# Altium integrated library Dallas Interface Digital Potentiometer.IntLib: 89 symbols (part 1 of 2)
Pins are listed as number, name and electrical type; pins without a type are passive.

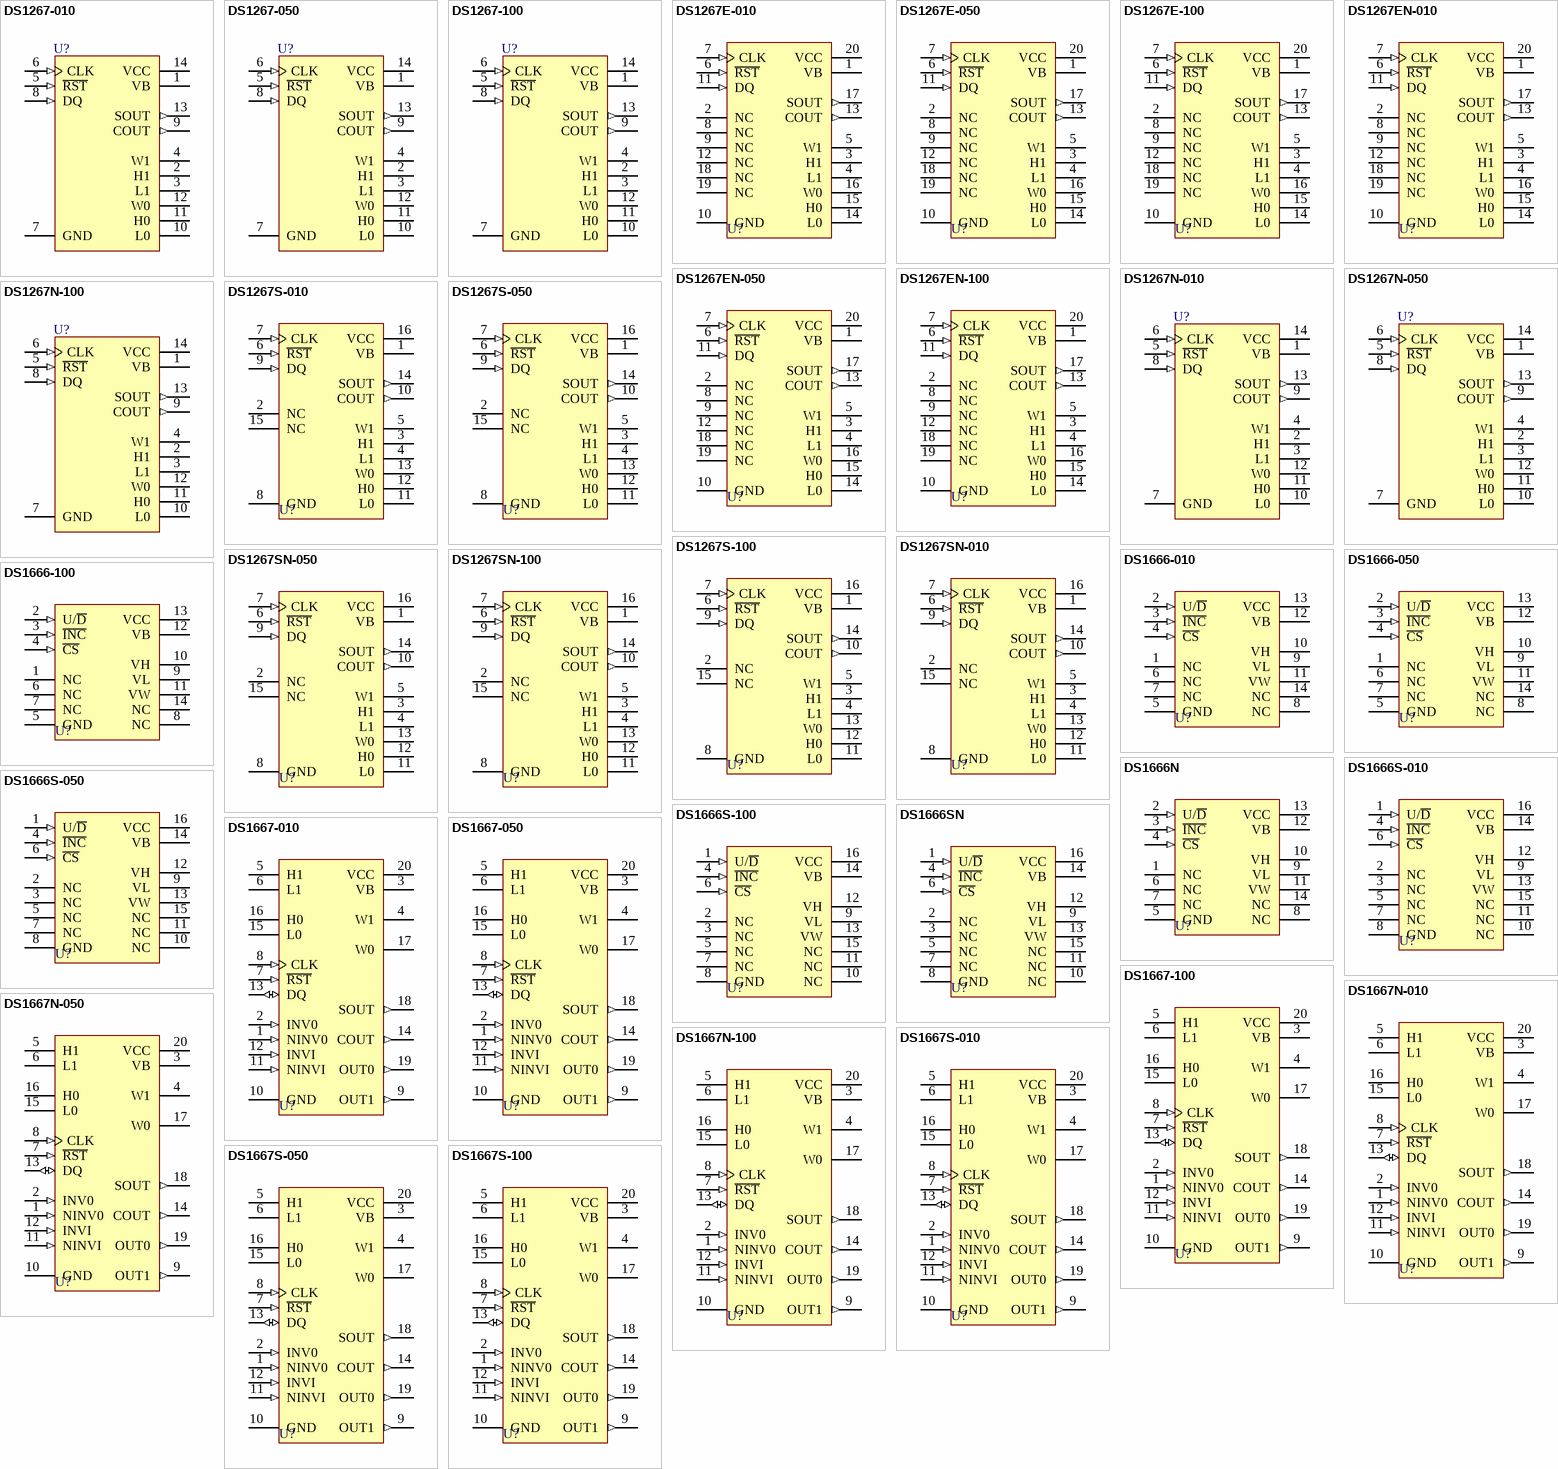
[diagram p0: symbols DS1267-010 to DS1667S-100]

## DS1267-010
designator U?
Dual Digital Potentiometer Chip; PackageDocument: 1999; Published: 13-Oct-2000; LatestRevisionDate: 06-Jun-2005; LatestRevisionNote: Stylized 3D Model Added.; DatasheetDocument: 21-Oct-1999; PackageReference: DIP14; Publisher: Altium Limited; ComponentLink1Description: Manufacturer Link; ComponentLink1URL: http://www.maxim-ic.com/; ComponentLink2Description: Datasheet; ComponentLink2URL: http://pdfserv.maxim-ic.com/en/ds/DS1267.pdf
footprint DIP14 (DIP; 14 Leads; Row Spacing 7.62 mm; Pitch 2.54 mm)
3D model DIP14 (DIP; 14 Leads; Row Spacing 7.62 mm; Pitch 2.54 mm)
pins: 1 VB (power), 2 H1, 3 L1, 4 W1, 5 ~{RST} (in), 6 CLK (in), 7 GND (power), 8 DQ (in), 9 COUT (out), 10 L0, 11 H0, 12 W0, 13 SOUT (out), 14 VCC (power)

## DS1267-050
designator U?
Dual Digital Potentiometer Chip; PackageDocument: 1999; Published: 13-Oct-2000; LatestRevisionDate: 06-Jun-2005; LatestRevisionNote: Stylized 3D Model Added.; DatasheetDocument: 21-Oct-1999; PackageReference: DIP14; Publisher: Altium Limited; ComponentLink1Description: Manufacturer Link; ComponentLink1URL: http://www.maxim-ic.com/; ComponentLink2Description: Datasheet; ComponentLink2URL: http://pdfserv.maxim-ic.com/en/ds/DS1267.pdf
footprint DIP14 (DIP; 14 Leads; Row Spacing 7.62 mm; Pitch 2.54 mm)
3D model DIP14 (DIP; 14 Leads; Row Spacing 7.62 mm; Pitch 2.54 mm)
pins: 1 VB (power), 2 H1, 3 L1, 4 W1, 5 ~{RST} (in), 6 CLK (in), 7 GND (power), 8 DQ (in), 9 COUT (out), 10 L0, 11 H0, 12 W0, 13 SOUT (out), 14 VCC (power)

## DS1267-100
designator U?
Dual Digital Potentiometer Chip; PackageDocument: 1999; Published: 13-Oct-2000; LatestRevisionDate: 06-Jun-2005; LatestRevisionNote: Stylized 3D Model Added.; DatasheetDocument: 21-Oct-1999; PackageReference: DIP14; Publisher: Altium Limited; ComponentLink1Description: Manufacturer Link; ComponentLink1URL: http://www.maxim-ic.com/; ComponentLink2Description: Datasheet; ComponentLink2URL: http://pdfserv.maxim-ic.com/en/ds/DS1267.pdf
footprint DIP14 (DIP; 14 Leads; Row Spacing 7.62 mm; Pitch 2.54 mm)
3D model DIP14 (DIP; 14 Leads; Row Spacing 7.62 mm; Pitch 2.54 mm)
pins: 1 VB (power), 2 H1, 3 L1, 4 W1, 5 ~{RST} (in), 6 CLK (in), 7 GND (power), 8 DQ (in), 9 COUT (out), 10 L0, 11 H0, 12 W0, 13 SOUT (out), 14 VCC (power)

## DS1267E-010
designator U?
Dual Digital Potentiometer Chip; Note: Pin numbers 2, 8, 9, 12, 18 and 19 are Not Connected (NC); Published: 13-Oct-2000; LatestRevisionDate: 06-Jun-2005; LatestRevisionNote: Stylized 3D Model Added.; DatasheetDocument: 21-Oct-1999; PackageReference: TSSOP20; Publisher: Altium Limited; ComponentLink1Description: Manufacturer Link; ComponentLink1URL: http://www.maxim-ic.com/; ComponentLink2Description: Datasheet; ComponentLink2URL: http://pdfserv.maxim-ic.com/en/ds/DS1267.pdf
footprint TSSOP20 (Shrink Small Outline; 20 Leads; Body Width 4.4 mm; Pitch 0.65 mm)
3D model TSSOP20 (Shrink Small Outline; 20 Leads; Body Width 4.4 mm; Pitch 0.65 mm)
pins: 1 VB (power), 2 NC, 3 H1, 4 L1, 5 W1, 6 ~{RST} (in), 7 CLK (in), 8 NC, 9 NC, 10 GND (power), 11 DQ (in), 12 NC, 13 COUT (out), 14 L0, 15 H0, 16 W0, 17 SOUT (out), 18 NC, 19 NC, 20 VCC (power)

## DS1267E-050
designator U?
Dual Digital Potentiometer Chip; Note: Pin numbers 2, 8, 9, 12, 18 and 19 are Not Connected (NC); Published: 13-Oct-2000; LatestRevisionDate: 06-Jun-2005; LatestRevisionNote: Stylized 3D Model Added.; DatasheetDocument: 21-Oct-1999; PackageReference: TSSOP20; Publisher: Altium Limited; ComponentLink1Description: Manufacturer Link; ComponentLink1URL: http://www.maxim-ic.com/; ComponentLink2Description: Datasheet; ComponentLink2URL: http://pdfserv.maxim-ic.com/en/ds/DS1267.pdf
footprint TSSOP20 (Shrink Small Outline; 20 Leads; Body Width 4.4 mm; Pitch 0.65 mm)
3D model TSSOP20 (Shrink Small Outline; 20 Leads; Body Width 4.4 mm; Pitch 0.65 mm)
pins: 1 VB (power), 2 NC, 3 H1, 4 L1, 5 W1, 6 ~{RST} (in), 7 CLK (in), 8 NC, 9 NC, 10 GND (power), 11 DQ (in), 12 NC, 13 COUT (out), 14 L0, 15 H0, 16 W0, 17 SOUT (out), 18 NC, 19 NC, 20 VCC (power)

## DS1267E-100
designator U?
Dual Digital Potentiometer Chip; Note: Pin numbers 2, 8, 9, 12, 18 and 19 are Not Connected (NC); Published: 13-Oct-2000; LatestRevisionDate: 06-Jun-2005; LatestRevisionNote: Stylized 3D Model Added.; DatasheetDocument: 21-Oct-1999; PackageReference: TSSOP20; Publisher: Altium Limited; ComponentLink1Description: Manufacturer Link; ComponentLink1URL: http://www.maxim-ic.com/; ComponentLink2Description: Datasheet; ComponentLink2URL: http://pdfserv.maxim-ic.com/en/ds/DS1267.pdf
footprint TSSOP20 (Shrink Small Outline; 20 Leads; Body Width 4.4 mm; Pitch 0.65 mm)
3D model TSSOP20 (Shrink Small Outline; 20 Leads; Body Width 4.4 mm; Pitch 0.65 mm)
pins: 1 VB (power), 2 NC, 3 H1, 4 L1, 5 W1, 6 ~{RST} (in), 7 CLK (in), 8 NC, 9 NC, 10 GND (power), 11 DQ (in), 12 NC, 13 COUT (out), 14 L0, 15 H0, 16 W0, 17 SOUT (out), 18 NC, 19 NC, 20 VCC (power)

## DS1267EN-010
designator U?
Dual Digital Potentiometer Chip; Note: Pin numbers 2, 8, 9, 12, 18 and 19 are Not Connected (NC); Published: 13-Oct-2000; LatestRevisionDate: 06-Jun-2005; LatestRevisionNote: Stylized 3D Model Added.; DatasheetDocument: 21-Oct-1999; PackageReference: TSSOP20; Publisher: Altium Limited; ComponentLink1Description: Manufacturer Link; ComponentLink1URL: http://www.maxim-ic.com/; ComponentLink2Description: Datasheet; ComponentLink2URL: http://pdfserv.maxim-ic.com/en/ds/DS1267.pdf
footprint TSSOP20 (Shrink Small Outline; 20 Leads; Body Width 4.4 mm; Pitch 0.65 mm)
3D model TSSOP20 (Shrink Small Outline; 20 Leads; Body Width 4.4 mm; Pitch 0.65 mm)
pins: 1 VB (power), 2 NC, 3 H1, 4 L1, 5 W1, 6 ~{RST} (in), 7 CLK (in), 8 NC, 9 NC, 10 GND (power), 11 DQ (in), 12 NC, 13 COUT (out), 14 L0, 15 H0, 16 W0, 17 SOUT (out), 18 NC, 19 NC, 20 VCC (power)

## DS1267EN-050
designator U?
Dual Digital Potentiometer Chip; Note: Pin numbers 2, 8, 9, 12, 18 and 19 are Not Connected (NC); Published: 13-Oct-2000; LatestRevisionDate: 06-Jun-2005; LatestRevisionNote: Stylized 3D Model Added.; DatasheetDocument: 21-Oct-1999; PackageReference: TSSOP20; Publisher: Altium Limited; ComponentLink1Description: Manufacturer Link; ComponentLink1URL: http://www.maxim-ic.com/; ComponentLink2Description: Datasheet; ComponentLink2URL: http://pdfserv.maxim-ic.com/en/ds/DS1267.pdf
footprint TSSOP20 (Shrink Small Outline; 20 Leads; Body Width 4.4 mm; Pitch 0.65 mm)
3D model TSSOP20 (Shrink Small Outline; 20 Leads; Body Width 4.4 mm; Pitch 0.65 mm)
pins: 1 VB (power), 2 NC, 3 H1, 4 L1, 5 W1, 6 ~{RST} (in), 7 CLK (in), 8 NC, 9 NC, 10 GND (power), 11 DQ (in), 12 NC, 13 COUT (out), 14 L0, 15 H0, 16 W0, 17 SOUT (out), 18 NC, 19 NC, 20 VCC (power)

## DS1267EN-100
designator U?
Dual Digital Potentiometer Chip; Note: Pin numbers 2, 8, 9, 12, 18 and 19 are Not Connected (NC); Published: 13-Oct-2000; LatestRevisionDate: 06-Jun-2005; LatestRevisionNote: Stylized 3D Model Added.; DatasheetDocument: 21-Oct-1999; PackageReference: TSSOP20; Publisher: Altium Limited; ComponentLink1Description: Manufacturer Link; ComponentLink1URL: http://www.maxim-ic.com/; ComponentLink2Description: Datasheet; ComponentLink2URL: http://pdfserv.maxim-ic.com/en/ds/DS1267.pdf
footprint TSSOP20 (Shrink Small Outline; 20 Leads; Body Width 4.4 mm; Pitch 0.65 mm)
3D model TSSOP20 (Shrink Small Outline; 20 Leads; Body Width 4.4 mm; Pitch 0.65 mm)
pins: 1 VB (power), 2 NC, 3 H1, 4 L1, 5 W1, 6 ~{RST} (in), 7 CLK (in), 8 NC, 9 NC, 10 GND (power), 11 DQ (in), 12 NC, 13 COUT (out), 14 L0, 15 H0, 16 W0, 17 SOUT (out), 18 NC, 19 NC, 20 VCC (power)

## DS1267N-010
designator U?
Dual Digital Potentiometer Chip; PackageDocument: 1999; Published: 13-Oct-2000; LatestRevisionDate: 06-Jun-2005; LatestRevisionNote: Stylized 3D Model Added.; DatasheetDocument: 21-Oct-1999; PackageReference: DIP14; Publisher: Altium Limited; ComponentLink1Description: Manufacturer Link; ComponentLink1URL: http://www.maxim-ic.com/; ComponentLink2Description: Datasheet; ComponentLink2URL: http://pdfserv.maxim-ic.com/en/ds/DS1267.pdf
footprint DIP14 (DIP; 14 Leads; Row Spacing 7.62 mm; Pitch 2.54 mm)
3D model DIP14 (DIP; 14 Leads; Row Spacing 7.62 mm; Pitch 2.54 mm)
pins: 1 VB (power), 2 H1, 3 L1, 4 W1, 5 ~{RST} (in), 6 CLK (in), 7 GND (power), 8 DQ (in), 9 COUT (out), 10 L0, 11 H0, 12 W0, 13 SOUT (out), 14 VCC (power)

## DS1267N-050
designator U?
Dual Digital Potentiometer Chip; PackageDocument: 1999; Published: 13-Oct-2000; LatestRevisionDate: 06-Jun-2005; LatestRevisionNote: Stylized 3D Model Added.; DatasheetDocument: 21-Oct-1999; PackageReference: DIP14; Publisher: Altium Limited; ComponentLink1Description: Manufacturer Link; ComponentLink1URL: http://www.maxim-ic.com/; ComponentLink2Description: Datasheet; ComponentLink2URL: http://pdfserv.maxim-ic.com/en/ds/DS1267.pdf
footprint DIP14 (DIP; 14 Leads; Row Spacing 7.62 mm; Pitch 2.54 mm)
3D model DIP14 (DIP; 14 Leads; Row Spacing 7.62 mm; Pitch 2.54 mm)
pins: 1 VB (power), 2 H1, 3 L1, 4 W1, 5 ~{RST} (in), 6 CLK (in), 7 GND (power), 8 DQ (in), 9 COUT (out), 10 L0, 11 H0, 12 W0, 13 SOUT (out), 14 VCC (power)

## DS1267N-100
designator U?
Dual Digital Potentiometer Chip; PackageDocument: 1999; Published: 13-Oct-2000; LatestRevisionDate: 06-Jun-2005; LatestRevisionNote: Stylized 3D Model Added.; DatasheetDocument: 21-Oct-1999; PackageReference: DIP14; Publisher: Altium Limited; ComponentLink1Description: Manufacturer Link; ComponentLink1URL: http://www.maxim-ic.com/; ComponentLink2Description: Datasheet; ComponentLink2URL: http://pdfserv.maxim-ic.com/en/ds/DS1267.pdf
footprint DIP14 (DIP; 14 Leads; Row Spacing 7.62 mm; Pitch 2.54 mm)
3D model DIP14 (DIP; 14 Leads; Row Spacing 7.62 mm; Pitch 2.54 mm)
pins: 1 VB (power), 2 H1, 3 L1, 4 W1, 5 ~{RST} (in), 6 CLK (in), 7 GND (power), 8 DQ (in), 9 COUT (out), 10 L0, 11 H0, 12 W0, 13 SOUT (out), 14 VCC (power)

## DS1267S-010
designator U?
Dual Digital Potentiometer Chip; PackageDocument: 1999; Note: Pin numbers 2 and 15 are Not Connected (NC); Published: 13-Oct-2000; LatestRevisionDate: 06-Jun-2005; LatestRevisionNote: Stylized 3D Model Added.; DatasheetDocument: 21-Oct-1999; PackageReference: SOIC16W; Publisher: Altium Limited; ComponentLink1Description: Manufacturer Link; ComponentLink1URL: http://www.maxim-ic.com/; ComponentLink2Description: Datasheet; ComponentLink2URL: http://pdfserv.maxim-ic.com/en/ds/DS1267.pdf
footprint SOIC16W (Small Outline; 16 Leads; Body Width 7.5 mm; Pitch 1.27 mm)
3D model SOIC16W (Small Outline; 16 Leads; Body Width 7.5 mm; Pitch 1.27 mm)
pins: 1 VB (power), 2 NC, 3 H1, 4 L1, 5 W1, 6 ~{RST} (in), 7 CLK (in), 8 GND (power), 9 DQ (in), 10 COUT (out), 11 L0, 12 H0, 13 W0, 14 SOUT (out), 15 NC, 16 VCC (power)

## DS1267S-050
designator U?
Dual Digital Potentiometer Chip; PackageDocument: 1999; Note: Pin numbers 2 and 15 are Not Connected (NC); Published: 13-Oct-2000; LatestRevisionDate: 06-Jun-2005; LatestRevisionNote: Stylized 3D Model Added.; DatasheetDocument: 21-Oct-1999; PackageReference: SOIC16W; Publisher: Altium Limited; ComponentLink1Description: Manufacturer Link; ComponentLink1URL: http://www.maxim-ic.com/; ComponentLink2Description: Datasheet; ComponentLink2URL: http://pdfserv.maxim-ic.com/en/ds/DS1267.pdf
footprint SOIC16W (Small Outline; 16 Leads; Body Width 7.5 mm; Pitch 1.27 mm)
3D model SOIC16W (Small Outline; 16 Leads; Body Width 7.5 mm; Pitch 1.27 mm)
pins: 1 VB (power), 2 NC, 3 H1, 4 L1, 5 W1, 6 ~{RST} (in), 7 CLK (in), 8 GND (power), 9 DQ (in), 10 COUT (out), 11 L0, 12 H0, 13 W0, 14 SOUT (out), 15 NC, 16 VCC (power)

## DS1267S-100
designator U?
Dual Digital Potentiometer Chip; PackageDocument: 1999; Note: Pin numbers 2 and 15 are Not Connected (NC); Published: 13-Oct-2000; LatestRevisionDate: 06-Jun-2005; LatestRevisionNote: Stylized 3D Model Added.; DatasheetDocument: 21-Oct-1999; PackageReference: SOIC16W; Publisher: Altium Limited; ComponentLink1Description: Manufacturer Link; ComponentLink1URL: http://www.maxim-ic.com/; ComponentLink2Description: Datasheet; ComponentLink2URL: http://pdfserv.maxim-ic.com/en/ds/DS1267.pdf
footprint SOIC16W (Small Outline; 16 Leads; Body Width 7.5 mm; Pitch 1.27 mm)
3D model SOIC16W (Small Outline; 16 Leads; Body Width 7.5 mm; Pitch 1.27 mm)
pins: 1 VB (power), 2 NC, 3 H1, 4 L1, 5 W1, 6 ~{RST} (in), 7 CLK (in), 8 GND (power), 9 DQ (in), 10 COUT (out), 11 L0, 12 H0, 13 W0, 14 SOUT (out), 15 NC, 16 VCC (power)

## DS1267SN-010
designator U?
Dual Digital Potentiometer Chip; PackageDocument: 1999; Note: Pin numbers 2 and 15 are Not Connected (NC); Published: 13-Oct-2000; LatestRevisionDate: 06-Jun-2005; LatestRevisionNote: Stylized 3D Model Added.; DatasheetDocument: 21-Oct-1999; PackageReference: SOIC16W; Publisher: Altium Limited; ComponentLink1Description: Manufacturer Link; ComponentLink1URL: http://www.maxim-ic.com/; ComponentLink2Description: Datasheet; ComponentLink2URL: http://pdfserv.maxim-ic.com/en/ds/DS1267.pdf
footprint SOIC16W (Small Outline; 16 Leads; Body Width 7.5 mm; Pitch 1.27 mm)
3D model SOIC16W (Small Outline; 16 Leads; Body Width 7.5 mm; Pitch 1.27 mm)
pins: 1 VB (power), 2 NC, 3 H1, 4 L1, 5 W1, 6 ~{RST} (in), 7 CLK (in), 8 GND (power), 9 DQ (in), 10 COUT (out), 11 L0, 12 H0, 13 W0, 14 SOUT (out), 15 NC, 16 VCC (power)

## DS1267SN-050
designator U?
Dual Digital Potentiometer Chip; PackageDocument: 1999; Note: Pin numbers 2 and 15 are Not Connected (NC); Published: 13-Oct-2000; LatestRevisionDate: 06-Jun-2005; LatestRevisionNote: Stylized 3D Model Added.; DatasheetDocument: 21-Oct-1999; PackageReference: SOIC16W; Publisher: Altium Limited; ComponentLink1Description: Manufacturer Link; ComponentLink1URL: http://www.maxim-ic.com/; ComponentLink2Description: Datasheet; ComponentLink2URL: http://pdfserv.maxim-ic.com/en/ds/DS1267.pdf
footprint SOIC16W (Small Outline; 16 Leads; Body Width 7.5 mm; Pitch 1.27 mm)
3D model SOIC16W (Small Outline; 16 Leads; Body Width 7.5 mm; Pitch 1.27 mm)
pins: 1 VB (power), 2 NC, 3 H1, 4 L1, 5 W1, 6 ~{RST} (in), 7 CLK (in), 8 GND (power), 9 DQ (in), 10 COUT (out), 11 L0, 12 H0, 13 W0, 14 SOUT (out), 15 NC, 16 VCC (power)

## DS1267SN-100
designator U?
Dual Digital Potentiometer Chip; PackageDocument: 1999; Note: Pin numbers 2 and 15 are Not Connected (NC); Published: 13-Oct-2000; LatestRevisionDate: 06-Jun-2005; LatestRevisionNote: Stylized 3D Model Added.; DatasheetDocument: 21-Oct-1999; PackageReference: SOIC16W; Publisher: Altium Limited; ComponentLink1Description: Manufacturer Link; ComponentLink1URL: http://www.maxim-ic.com/; ComponentLink2Description: Datasheet; ComponentLink2URL: http://pdfserv.maxim-ic.com/en/ds/DS1267.pdf
footprint SOIC16W (Small Outline; 16 Leads; Body Width 7.5 mm; Pitch 1.27 mm)
3D model SOIC16W (Small Outline; 16 Leads; Body Width 7.5 mm; Pitch 1.27 mm)
pins: 1 VB (power), 2 NC, 3 H1, 4 L1, 5 W1, 6 ~{RST} (in), 7 CLK (in), 8 GND (power), 9 DQ (in), 10 COUT (out), 11 L0, 12 H0, 13 W0, 14 SOUT (out), 15 NC, 16 VCC (power)

## DS1666-010
designator U?
Audio Digital Resistor; PackageDocument: 1999; Note: Pin numbers 1, 6, 7, 8 and 14 are Not Connected (NC); Published: 13-Oct-2000; LatestRevisionDate: 06-Jun-2005; LatestRevisionNote: Stylized 3D Model Added.; DatasheetDocument: 23-Nov-1999; PackageReference: DIP14; Publisher: Altium Limited; ComponentLink1Description: Manufacturer Link; ComponentLink1URL: http://www.maxim-ic.com/; ComponentLink2Description: Datasheet; ComponentLink2URL: http://pdfserv.maxim-ic.com/en/ds/DS1666-DS1666S.pdf
footprint DIP14 (DIP; 14 Leads; Row Spacing 7.62 mm; Pitch 2.54 mm)
3D model DIP14 (DIP; 14 Leads; Row Spacing 7.62 mm; Pitch 2.54 mm)
pins: 1 NC, 2 U/~{D} (in), 3 ~{INC} (in), 4 ~{CS} (in), 5 GND (power), 6 NC, 7 NC, 8 NC, 9 VL, 10 VH, 11 VW, 12 VB (power), 13 VCC (power), 14 NC

## DS1666-050
designator U?
Audio Digital Resistor; PackageDocument: 1999; Note: Pin numbers 1, 6, 7, 8 and 14 are Not Connected (NC); Published: 13-Oct-2000; LatestRevisionDate: 06-Jun-2005; LatestRevisionNote: Stylized 3D Model Added.; DatasheetDocument: 23-Nov-1999; PackageReference: DIP14; Publisher: Altium Limited; ComponentLink1Description: Manufacturer Link; ComponentLink1URL: http://www.maxim-ic.com/; ComponentLink2Description: Datasheet; ComponentLink2URL: http://pdfserv.maxim-ic.com/en/ds/DS1666-DS1666S.pdf
footprint DIP14 (DIP; 14 Leads; Row Spacing 7.62 mm; Pitch 2.54 mm)
3D model DIP14 (DIP; 14 Leads; Row Spacing 7.62 mm; Pitch 2.54 mm)
pins: 1 NC, 2 U/~{D} (in), 3 ~{INC} (in), 4 ~{CS} (in), 5 GND (power), 6 NC, 7 NC, 8 NC, 9 VL, 10 VH, 11 VW, 12 VB (power), 13 VCC (power), 14 NC

## DS1666-100
designator U?
Audio Digital Resistor; PackageDocument: 1999; Note: Pin numbers 1, 6, 7, 8 and 14 are Not Connected (NC); Published: 13-Oct-2000; LatestRevisionDate: 06-Jun-2005; LatestRevisionNote: Stylized 3D Model Added.; DatasheetDocument: 23-Nov-1999; PackageReference: DIP14; Publisher: Altium Limited; ComponentLink1Description: Manufacturer Link; ComponentLink1URL: http://www.maxim-ic.com/; ComponentLink2Description: Datasheet; ComponentLink2URL: http://pdfserv.maxim-ic.com/en/ds/DS1666-DS1666S.pdf
footprint DIP14 (DIP; 14 Leads; Row Spacing 7.62 mm; Pitch 2.54 mm)
3D model DIP14 (DIP; 14 Leads; Row Spacing 7.62 mm; Pitch 2.54 mm)
pins: 1 NC, 2 U/~{D} (in), 3 ~{INC} (in), 4 ~{CS} (in), 5 GND (power), 6 NC, 7 NC, 8 NC, 9 VL, 10 VH, 11 VW, 12 VB (power), 13 VCC (power), 14 NC

## DS1666N
designator U?
Audio Digital Resistor; PackageDocument: 1999; Note: Pin numbers 1, 6, 7, 8 and 14 are Not Connected (NC); Published: 13-Oct-2000; LatestRevisionDate: 06-Jun-2005; LatestRevisionNote: Stylized 3D Model Added.; DatasheetDocument: 5-Feb-1992; PackageReference: DIP14; Publisher: Altium Limited; ComponentLink1Description: Manufacturer Link; ComponentLink1URL: http://www.maxim-ic.com/; ComponentLink2Description: Datasheet; ComponentLink2URL: http://pdfserv.maxim-ic.com/en/ds/DS1666-DS1666S.pdf
footprint DIP14 (DIP; 14 Leads; Row Spacing 7.62 mm; Pitch 2.54 mm)
3D model DIP14 (DIP; 14 Leads; Row Spacing 7.62 mm; Pitch 2.54 mm)
pins: 1 NC, 2 U/~{D} (in), 3 ~{INC} (in), 4 ~{CS} (in), 5 GND (power), 6 NC, 7 NC, 8 NC, 9 VL, 10 VH, 11 VW, 12 VB (power), 13 VCC (power), 14 NC

## DS1666S-010
designator U?
Audio Digital Resistor; PackageDocument: 1999; Note: Pin numbers 2, 3, 5, 7, 10, 11 and 15 are Not Connected (NC); Published: 13-Oct-2000; LatestRevisionDate: 06-Jun-2005; LatestRevisionNote: Stylized 3D Model Added.; DatasheetDocument: 23-Nov-1999; PackageReference: SOIC16W; Publisher: Altium Limited; ComponentLink1Description: Manufacturer Link; ComponentLink1URL: http://www.maxim-ic.com/; ComponentLink2Description: Datasheet; ComponentLink2URL: http://pdfserv.maxim-ic.com/en/ds/DS1666-DS1666S.pdf
footprint SOIC16W (Small Outline; 16 Leads; Body Width 7.5 mm; Pitch 1.27 mm)
3D model SOIC16W (Small Outline; 16 Leads; Body Width 7.5 mm; Pitch 1.27 mm)
pins: 1 U/~{D} (in), 2 NC, 3 NC, 4 ~{INC} (in), 5 NC, 6 ~{CS} (in), 7 NC, 8 GND (power), 9 VL, 10 NC, 11 NC, 12 VH, 13 VW, 14 VB (power), 15 NC, 16 VCC (power)

## DS1666S-050
designator U?
Audio Digital Resistor; PackageDocument: 1999; Note: Pin numbers 2, 3, 5, 7, 10, 11 and 15 are Not Connected (NC); Published: 13-Oct-2000; LatestRevisionDate: 06-Jun-2005; LatestRevisionNote: Stylized 3D Model Added.; DatasheetDocument: 23-Nov-1999; PackageReference: SOIC16W; Publisher: Altium Limited; ComponentLink1Description: Manufacturer Link; ComponentLink1URL: http://www.maxim-ic.com/; ComponentLink2Description: Datasheet; ComponentLink2URL: http://pdfserv.maxim-ic.com/en/ds/DS1666-DS1666S.pdf
footprint SOIC16W (Small Outline; 16 Leads; Body Width 7.5 mm; Pitch 1.27 mm)
3D model SOIC16W (Small Outline; 16 Leads; Body Width 7.5 mm; Pitch 1.27 mm)
pins: 1 U/~{D} (in), 2 NC, 3 NC, 4 ~{INC} (in), 5 NC, 6 ~{CS} (in), 7 NC, 8 GND (power), 9 VL, 10 NC, 11 NC, 12 VH, 13 VW, 14 VB (power), 15 NC, 16 VCC (power)

## DS1666S-100
designator U?
Audio Digital Resistor; PackageDocument: 1999; Note: Pin numbers 2, 3, 5, 7, 10, 11 and 15 are Not Connected (NC); Published: 13-Oct-2000; LatestRevisionDate: 06-Jun-2005; LatestRevisionNote: Stylized 3D Model Added.; DatasheetDocument: 23-Nov-1999; PackageReference: SOIC16W; Publisher: Altium Limited; ComponentLink1Description: Manufacturer Link; ComponentLink1URL: http://www.maxim-ic.com/; ComponentLink2Description: Datasheet; ComponentLink2URL: http://pdfserv.maxim-ic.com/en/ds/DS1666-DS1666S.pdf
footprint SOIC16W (Small Outline; 16 Leads; Body Width 7.5 mm; Pitch 1.27 mm)
3D model SOIC16W (Small Outline; 16 Leads; Body Width 7.5 mm; Pitch 1.27 mm)
pins: 1 U/~{D} (in), 2 NC, 3 NC, 4 ~{INC} (in), 5 NC, 6 ~{CS} (in), 7 NC, 8 GND (power), 9 VL, 10 NC, 11 NC, 12 VH, 13 VW, 14 VB (power), 15 NC, 16 VCC (power)

## DS1666SN
designator U?
Audio Digital Resistor; PackageDocument: 1994; Note: Pin numbers 2, 3, 5, 7, 10, 11 and 15 are Not Connected (NC); Published: 13-Oct-2000; LatestRevisionDate: 06-Jun-2005; LatestRevisionNote: Stylized 3D Model Added.; DatasheetDocument: 5-Feb-1992; PackageReference: SOIC16WA; Publisher: Altium Limited; ComponentLink1Description: Manufacturer Link; ComponentLink1URL: http://www.maxim-ic.com/; ComponentLink2Description: Datasheet; ComponentLink2URL: http://pdfserv.maxim-ic.com/en/ds/DS1666-DS1666S.pdf
footprint SOIC16WA (Small Outline; 16 Leads; Body Width 7.5 mm; Pitch 1.27 mm)
3D model SOIC16W (Small Outline; 16 Leads; Body Width 7.5 mm; Pitch 1.27 mm)
pins: 1 U/~{D} (in), 2 NC, 3 NC, 4 ~{INC} (in), 5 NC, 6 ~{CS} (in), 7 NC, 8 GND (power), 9 VL, 10 NC, 11 NC, 12 VH, 13 VW, 14 VB (power), 15 NC, 16 VCC (power)

## DS1667-010
designator U?
Digital Resistor with Op Amp; PackageDocument: 1999; Published: 13-Oct-2000; LatestRevisionDate: 06-Jun-2005; LatestRevisionNote: Stylized 3D Model Added.; DatasheetDocument: 19-Oct-1999; PackageReference: DIP20; Publisher: Altium Limited; Code_JEDEC: MS-001-AD; ComponentLink1Description: Manufacturer Link; ComponentLink1URL: http://www.maxim-ic.com/
footprint DIP20 (DIP; 20 Leads; Row Spacing 7.62 mm; Pitch 2.54 mm)
3D model DIP20 (DIP; 20 Leads; Row Spacing 7.62 mm; Pitch 2.54 mm)
pins: 1 NINV0 (in), 2 INV0 (in), 3 VB (power), 4 W1, 5 H1, 6 L1, 7 ~{RST} (in), 8 CLK (in), 9 OUT1 (out), 10 GND (power), 11 NINVI (in), 12 INVI (in), 13 DQ (io), 14 COUT (out), 15 L0, 16 H0, 17 W0, 18 SOUT (out), 19 OUT0 (out), 20 VCC (power)

## DS1667-050
designator U?
Digital Resistor with Op Amp; PackageDocument: 1999; Published: 13-Oct-2000; LatestRevisionDate: 06-Jun-2005; LatestRevisionNote: Stylized 3D Model Added.; DatasheetDocument: 19-Oct-1999; PackageReference: DIP20; Publisher: Altium Limited; Code_JEDEC: MS-001-AD; ComponentLink1Description: Manufacturer Link; ComponentLink1URL: http://www.maxim-ic.com/
footprint DIP20 (DIP; 20 Leads; Row Spacing 7.62 mm; Pitch 2.54 mm)
3D model DIP20 (DIP; 20 Leads; Row Spacing 7.62 mm; Pitch 2.54 mm)
pins: 1 NINV0 (in), 2 INV0 (in), 3 VB (power), 4 W1, 5 H1, 6 L1, 7 ~{RST} (in), 8 CLK (in), 9 OUT1 (out), 10 GND (power), 11 NINVI (in), 12 INVI (in), 13 DQ (io), 14 COUT (out), 15 L0, 16 H0, 17 W0, 18 SOUT (out), 19 OUT0 (out), 20 VCC (power)

## DS1667-100
designator U?
Digital Resistor with Op Amp; PackageDocument: 1999; Published: 13-Oct-2000; LatestRevisionDate: 06-Jun-2005; LatestRevisionNote: Stylized 3D Model Added.; DatasheetDocument: 19-Oct-1999; PackageReference: DIP20; Publisher: Altium Limited; Code_JEDEC: MS-001-AD; ComponentLink1Description: Manufacturer Link; ComponentLink1URL: http://www.maxim-ic.com/
footprint DIP20 (DIP; 20 Leads; Row Spacing 7.62 mm; Pitch 2.54 mm)
3D model DIP20 (DIP; 20 Leads; Row Spacing 7.62 mm; Pitch 2.54 mm)
pins: 1 NINV0 (in), 2 INV0 (in), 3 VB (power), 4 W1, 5 H1, 6 L1, 7 ~{RST} (in), 8 CLK (in), 9 OUT1 (out), 10 GND (power), 11 NINVI (in), 12 INVI (in), 13 DQ (io), 14 COUT (out), 15 L0, 16 H0, 17 W0, 18 SOUT (out), 19 OUT0 (out), 20 VCC (power)

## DS1667N-010
designator U?
Digital Resistor with Op Amp; PackageDocument: 1999; Published: 13-Oct-2000; LatestRevisionDate: 06-Jun-2005; LatestRevisionNote: Stylized 3D Model Added.; DatasheetDocument: 19-Oct-1999; PackageReference: DIP20; Publisher: Altium Limited; Code_JEDEC: MS-001-AD; ComponentLink1Description: Manufacturer Link; ComponentLink1URL: http://www.maxim-ic.com/
footprint DIP20 (DIP; 20 Leads; Row Spacing 7.62 mm; Pitch 2.54 mm)
3D model DIP20 (DIP; 20 Leads; Row Spacing 7.62 mm; Pitch 2.54 mm)
pins: 1 NINV0 (in), 2 INV0 (in), 3 VB (power), 4 W1, 5 H1, 6 L1, 7 ~{RST} (in), 8 CLK (in), 9 OUT1 (out), 10 GND (power), 11 NINVI (in), 12 INVI (in), 13 DQ (io), 14 COUT (out), 15 L0, 16 H0, 17 W0, 18 SOUT (out), 19 OUT0 (out), 20 VCC (power)

## DS1667N-050
designator U?
Digital Resistor with Op Amp; PackageDocument: 1999; Published: 13-Oct-2000; LatestRevisionDate: 06-Jun-2005; LatestRevisionNote: Stylized 3D Model Added.; DatasheetDocument: 19-Oct-1999; PackageReference: DIP20; Publisher: Altium Limited; Code_JEDEC: MS-001-AD; ComponentLink1Description: Manufacturer Link; ComponentLink1URL: http://www.maxim-ic.com/
footprint DIP20 (DIP; 20 Leads; Row Spacing 7.62 mm; Pitch 2.54 mm)
3D model DIP20 (DIP; 20 Leads; Row Spacing 7.62 mm; Pitch 2.54 mm)
pins: 1 NINV0 (in), 2 INV0 (in), 3 VB (power), 4 W1, 5 H1, 6 L1, 7 ~{RST} (in), 8 CLK (in), 9 OUT1 (out), 10 GND (power), 11 NINVI (in), 12 INVI (in), 13 DQ (io), 14 COUT (out), 15 L0, 16 H0, 17 W0, 18 SOUT (out), 19 OUT0 (out), 20 VCC (power)

## DS1667N-100
designator U?
Digital Resistor with Op Amp; PackageDocument: 1999; Published: 13-Oct-2000; LatestRevisionDate: 06-Jun-2005; LatestRevisionNote: Stylized 3D Model Added.; DatasheetDocument: 19-Oct-1999; PackageReference: DIP20; Publisher: Altium Limited; Code_JEDEC: MS-001-AD; ComponentLink1Description: Manufacturer Link; ComponentLink1URL: http://www.maxim-ic.com/
footprint DIP20 (DIP; 20 Leads; Row Spacing 7.62 mm; Pitch 2.54 mm)
3D model DIP20 (DIP; 20 Leads; Row Spacing 7.62 mm; Pitch 2.54 mm)
pins: 1 NINV0 (in), 2 INV0 (in), 3 VB (power), 4 W1, 5 H1, 6 L1, 7 ~{RST} (in), 8 CLK (in), 9 OUT1 (out), 10 GND (power), 11 NINVI (in), 12 INVI (in), 13 DQ (io), 14 COUT (out), 15 L0, 16 H0, 17 W0, 18 SOUT (out), 19 OUT0 (out), 20 VCC (power)

## DS1667S-010
designator U?
Digital Resistor with Op Amp; PackageDocument: 1999; Published: 13-Oct-2000; LatestRevisionDate: 06-Jun-2005; LatestRevisionNote: Stylized 3D Model Added.; DatasheetDocument: 19-Oct-1999; PackageReference: SOIC20; Publisher: Altium Limited; ComponentLink1Description: Manufacturer Link; ComponentLink1URL: http://www.maxim-ic.com/
footprint SOIC20 (Small Outline; 20 Leads; Body Width 7.5 mm; Pitch 1.27 mm)
3D model SOIC20 (Small Outline; 20 Leads; Body Width 7.5 mm; Pitch 1.27 mm)
pins: 1 NINV0 (in), 2 INV0 (in), 3 VB (power), 4 W1, 5 H1, 6 L1, 7 ~{RST} (in), 8 CLK (in), 9 OUT1 (out), 10 GND (power), 11 NINVI (in), 12 INVI (in), 13 DQ (io), 14 COUT (out), 15 L0, 16 H0, 17 W0, 18 SOUT (out), 19 OUT0 (out), 20 VCC (power)

## DS1667S-050
designator U?
Digital Resistor with Op Amp; PackageDocument: 1999; Published: 13-Oct-2000; LatestRevisionDate: 06-Jun-2005; LatestRevisionNote: Stylized 3D Model Added.; DatasheetDocument: 19-Oct-1999; PackageReference: SOIC20; Publisher: Altium Limited; ComponentLink1Description: Manufacturer Link; ComponentLink1URL: http://www.maxim-ic.com/
footprint SOIC20 (Small Outline; 20 Leads; Body Width 7.5 mm; Pitch 1.27 mm)
3D model SOIC20 (Small Outline; 20 Leads; Body Width 7.5 mm; Pitch 1.27 mm)
pins: 1 NINV0 (in), 2 INV0 (in), 3 VB (power), 4 W1, 5 H1, 6 L1, 7 ~{RST} (in), 8 CLK (in), 9 OUT1 (out), 10 GND (power), 11 NINVI (in), 12 INVI (in), 13 DQ (io), 14 COUT (out), 15 L0, 16 H0, 17 W0, 18 SOUT (out), 19 OUT0 (out), 20 VCC (power)

## DS1667S-100
designator U?
Digital Resistor with Op Amp; PackageDocument: 1999; Published: 13-Oct-2000; LatestRevisionDate: 06-Jun-2005; LatestRevisionNote: Stylized 3D Model Added.; DatasheetDocument: 19-Oct-1999; PackageReference: SOIC20; Publisher: Altium Limited; ComponentLink1Description: Manufacturer Link; ComponentLink1URL: http://www.maxim-ic.com/
footprint SOIC20 (Small Outline; 20 Leads; Body Width 7.5 mm; Pitch 1.27 mm)
3D model SOIC20 (Small Outline; 20 Leads; Body Width 7.5 mm; Pitch 1.27 mm)
pins: 1 NINV0 (in), 2 INV0 (in), 3 VB (power), 4 W1, 5 H1, 6 L1, 7 ~{RST} (in), 8 CLK (in), 9 OUT1 (out), 10 GND (power), 11 NINVI (in), 12 INVI (in), 13 DQ (io), 14 COUT (out), 15 L0, 16 H0, 17 W0, 18 SOUT (out), 19 OUT0 (out), 20 VCC (power)

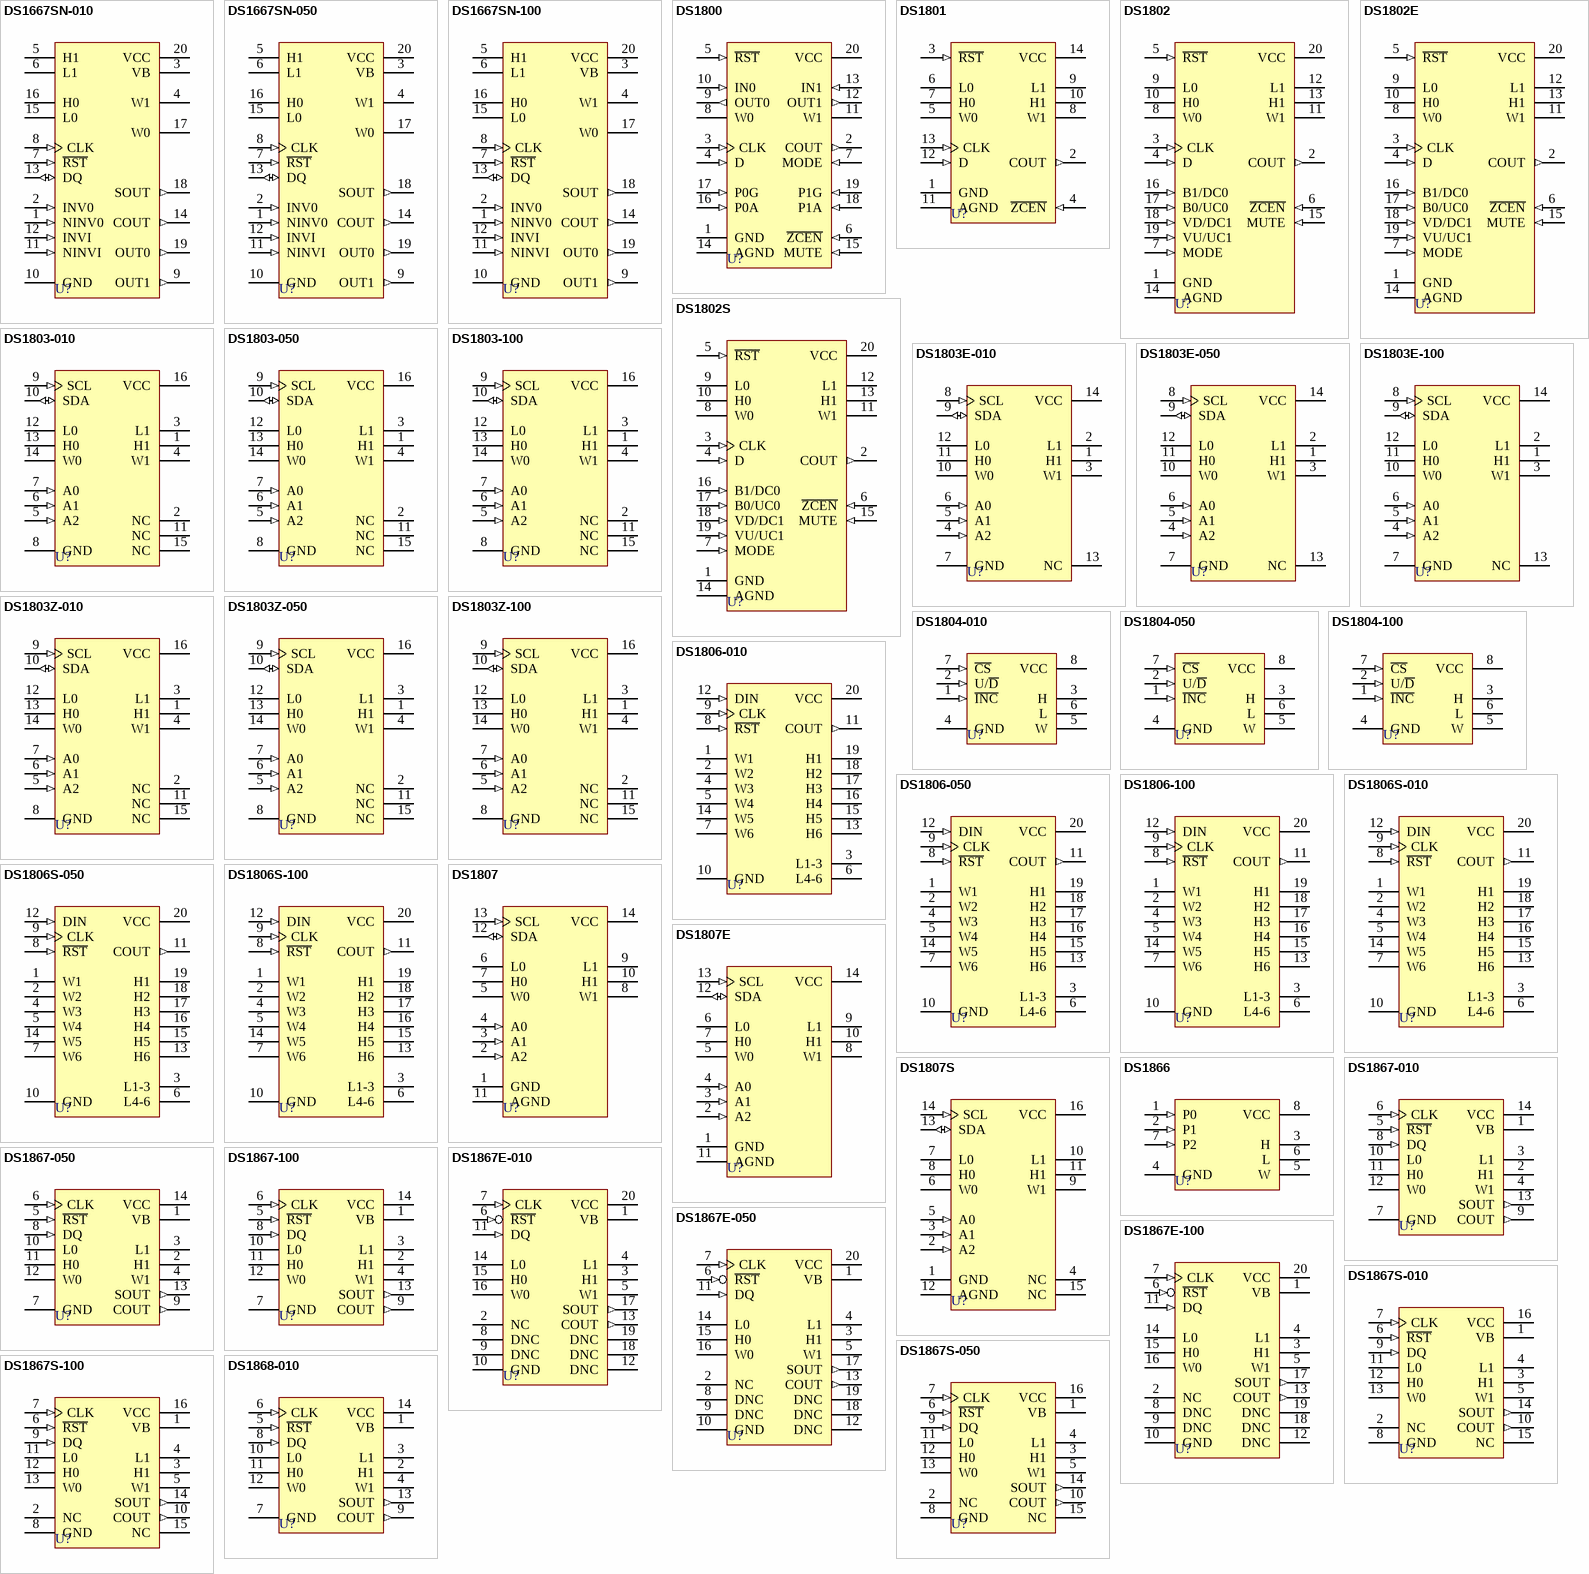
[diagram p1: symbols DS1667SN-010 to DS1868-010]

## DS1667SN-010
designator U?
Digital Resistor with Op Amp; PackageDocument: 1999; Published: 13-Oct-2000; LatestRevisionDate: 06-Jun-2005; LatestRevisionNote: Stylized 3D Model Added.; DatasheetDocument: 19-Oct-1999; PackageReference: SOIC20; Publisher: Altium Limited; ComponentLink1Description: Manufacturer Link; ComponentLink1URL: http://www.maxim-ic.com/
footprint SOIC20 (Small Outline; 20 Leads; Body Width 7.5 mm; Pitch 1.27 mm)
3D model SOIC20 (Small Outline; 20 Leads; Body Width 7.5 mm; Pitch 1.27 mm)
pins: 1 NINV0 (in), 2 INV0 (in), 3 VB (power), 4 W1, 5 H1, 6 L1, 7 ~{RST} (in), 8 CLK (in), 9 OUT1 (out), 10 GND (power), 11 NINVI (in), 12 INVI (in), 13 DQ (io), 14 COUT (out), 15 L0, 16 H0, 17 W0, 18 SOUT (out), 19 OUT0 (out), 20 VCC (power)

## DS1667SN-050
designator U?
Digital Resistor with Op Amp; PackageDocument: 1999; Published: 13-Oct-2000; LatestRevisionDate: 06-Jun-2005; LatestRevisionNote: Stylized 3D Model Added.; DatasheetDocument: 19-Oct-1999; PackageReference: SOIC20; Publisher: Altium Limited; ComponentLink1Description: Manufacturer Link; ComponentLink1URL: http://www.maxim-ic.com/
footprint SOIC20 (Small Outline; 20 Leads; Body Width 7.5 mm; Pitch 1.27 mm)
3D model SOIC20 (Small Outline; 20 Leads; Body Width 7.5 mm; Pitch 1.27 mm)
pins: 1 NINV0 (in), 2 INV0 (in), 3 VB (power), 4 W1, 5 H1, 6 L1, 7 ~{RST} (in), 8 CLK (in), 9 OUT1 (out), 10 GND (power), 11 NINVI (in), 12 INVI (in), 13 DQ (io), 14 COUT (out), 15 L0, 16 H0, 17 W0, 18 SOUT (out), 19 OUT0 (out), 20 VCC (power)

## DS1667SN-100
designator U?
Digital Resistor with Op Amp; PackageDocument: 1999; Published: 13-Oct-2000; LatestRevisionDate: 06-Jun-2005; LatestRevisionNote: Stylized 3D Model Added.; DatasheetDocument: 19-Oct-1999; PackageReference: SOIC20; Publisher: Altium Limited; ComponentLink1Description: Manufacturer Link; ComponentLink1URL: http://www.maxim-ic.com/
footprint SOIC20 (Small Outline; 20 Leads; Body Width 7.5 mm; Pitch 1.27 mm)
3D model SOIC20 (Small Outline; 20 Leads; Body Width 7.5 mm; Pitch 1.27 mm)
pins: 1 NINV0 (in), 2 INV0 (in), 3 VB (power), 4 W1, 5 H1, 6 L1, 7 ~{RST} (in), 8 CLK (in), 9 OUT1 (out), 10 GND (power), 11 NINVI (in), 12 INVI (in), 13 DQ (io), 14 COUT (out), 15 L0, 16 H0, 17 W0, 18 SOUT (out), 19 OUT0 (out), 20 VCC (power)

## DS1800
designator U?
Dual Inverting Log Gain/Attenuator; PackageDocument: 1999; Published: 13-Oct-2000; LatestRevisionDate: 06-Jun-2005; LatestRevisionNote: Stylized 3D Model Added.; DatasheetDocument: 19-Oct-1999; PackageReference: DIP20; Publisher: Altium Limited; Code_JEDEC: MS-001-AD; ComponentLink1Description: Manufacturer Link; ComponentLink1URL: http://www.maxim-ic.com/
footprint DIP20 (DIP; 20 Leads; Row Spacing 7.62 mm; Pitch 2.54 mm)
3D model DIP20 (DIP; 20 Leads; Row Spacing 7.62 mm; Pitch 2.54 mm)
pins: 1 GND (power), 2 COUT (out), 3 CLK (in), 4 D (in), 5 ~{RST} (in), 6 ~{ZCEN} (in), 7 MODE (in), 8 W0, 9 OUT0 (out), 10 IN0 (in), 11 W1, 12 OUT1 (out), 13 IN1 (in), 14 AGND (power), 15 MUTE (in), 16 P0A (in), 17 P0G (in), 18 P1A (in), 19 P1G (in), 20 VCC (power)

## DS1801
designator U?
Dual Audio Taper Potentiometer; PackageDocument: 1999; Published: 13-Oct-2000; LatestRevisionDate: 06-Jun-2005; LatestRevisionNote: Stylized 3D Model Added.; DatasheetDocument: 19-Oct-1999; PackageReference: DIP14; Publisher: Altium Limited; ComponentLink1Description: Manufacturer Link; ComponentLink1URL: http://www.maxim-ic.com/; ComponentLink2Description: Datasheet; ComponentLink2URL: http://pdfserv.maxim-ic.com/en/ds/DS1801.pdf
footprint DIP14 (DIP; 14 Leads; Row Spacing 7.62 mm; Pitch 2.54 mm)
3D model DIP14 (DIP; 14 Leads; Row Spacing 7.62 mm; Pitch 2.54 mm)
pins: 1 GND (power), 2 COUT (out), 3 ~{RST} (in), 4 ~{ZCEN} (in), 5 W0, 6 L0, 7 H0, 8 W1, 9 L1, 10 H1, 11 AGND (power), 12 D (in), 13 CLK (in), 14 VCC (power)

## DS1802
designator U?
Dual Audio Taper Potentiometer with Pushbutton Control; PackageDocument: 1999; Published: 13-Oct-2000; LatestRevisionDate: 06-Jun-2005; LatestRevisionNote: Stylized 3D Model Added.; DatasheetDocument: 19-Oct-1999; PackageReference: DIP20; Publisher: Altium Limited; Code_JEDEC: MS-001-AD; ComponentLink1Description: Manufacturer Link; ComponentLink1URL: http://www.maxim-ic.com/; ComponentLink2Description: Datasheet; ComponentLink2URL: http://pdfserv.maxim-ic.com/en/ds/DS1802.pdf
footprint DIP20 (DIP; 20 Leads; Row Spacing 7.62 mm; Pitch 2.54 mm)
3D model DIP20 (DIP; 20 Leads; Row Spacing 7.62 mm; Pitch 2.54 mm)
pins: 1 GND (power), 2 COUT (out), 3 CLK (in), 4 D (in), 5 ~{RST} (in), 6 ~{ZCEN} (in), 7 MODE (in), 8 W0, 9 L0, 10 H0, 11 W1, 12 L1, 13 H1, 14 AGND (power), 15 MUTE (in), 16 B1/DC0 (in), 17 B0/UC0 (in), 18 VD/DC1 (in), 19 VU/UC1 (in), 20 VCC (power)

## DS1802E
designator U?
Dual Audio Taper Potentiometer with Pushbutton Control; Published: 13-Oct-2000; LatestRevisionDate: 06-Jun-2005; LatestRevisionNote: Stylized 3D Model Added.; DatasheetDocument: 19-Oct-1999; PackageReference: TSSOP20; Publisher: Altium Limited; ComponentLink1Description: Manufacturer Link; ComponentLink1URL: http://www.maxim-ic.com/; ComponentLink2Description: Datasheet; ComponentLink2URL: http://pdfserv.maxim-ic.com/en/ds/DS1802.pdf
footprint TSSOP20 (Shrink Small Outline; 20 Leads; Body Width 4.4 mm; Pitch 0.65 mm)
3D model TSSOP20 (Shrink Small Outline; 20 Leads; Body Width 4.4 mm; Pitch 0.65 mm)
pins: 1 GND (power), 2 COUT (out), 3 CLK (in), 4 D (in), 5 ~{RST} (in), 6 ~{ZCEN} (in), 7 MODE (in), 8 W0, 9 L0, 10 H0, 11 W1, 12 L1, 13 H1, 14 AGND (power), 15 MUTE (in), 16 B1/DC0 (in), 17 B0/UC0 (in), 18 VD/DC1 (in), 19 VU/UC1 (in), 20 VCC (power)

## DS1802S
designator U?
Dual Audio Taper Potentiometer with Pushbutton Control; PackageDocument: 1999; Published: 13-Oct-2000; LatestRevisionDate: 06-Jun-2005; LatestRevisionNote: Stylized 3D Model Added.; DatasheetDocument: 19-Oct-1999; PackageReference: SOIC20; Publisher: Altium Limited; ComponentLink1Description: Manufacturer Link; ComponentLink1URL: http://www.maxim-ic.com/; ComponentLink2Description: Datasheet; ComponentLink2URL: http://pdfserv.maxim-ic.com/en/ds/DS1802.pdf
footprint SOIC20 (Small Outline; 20 Leads; Body Width 7.5 mm; Pitch 1.27 mm)
3D model SOIC20 (Small Outline; 20 Leads; Body Width 7.5 mm; Pitch 1.27 mm)
pins: 1 GND (power), 2 COUT (out), 3 CLK (in), 4 D (in), 5 ~{RST} (in), 6 ~{ZCEN} (in), 7 MODE (in), 8 W0, 9 L0, 10 H0, 11 W1, 12 L1, 13 H1, 14 AGND (power), 15 MUTE (in), 16 B1/DC0 (in), 17 B0/UC0 (in), 18 VD/DC1 (in), 19 VU/UC1 (in), 20 VCC (power)

## DS1803-010
designator U?
Addressable Dual Digital Potentiometer; PackageDocument: 1999; Note: Pin numbers 2, 11 and 15 are Not Connected (NC); Published: 13-Oct-2000; LatestRevisionDate: 06-Jun-2005; LatestRevisionNote: Stylized 3D Model Added.; DatasheetDocument: 15-Oct-1999; PackageReference: DIP16; Publisher: Altium Limited; ComponentLink1Description: Manufacturer Link; ComponentLink1URL: http://www.maxim-ic.com/; ComponentLink2Description: Datasheet; ComponentLink2URL: http://pdfserv.maxim-ic.com/en/ds/DS1803.pdf
footprint DIP16 (DIP; 16 Leads; Row Spacing 7.62 mm; Pitch 2.54 mm)
3D model DIP16 (DIP; 16 Leads; Row Spacing 7.62 mm; Pitch 2.54 mm)
pins: 1 H1, 2 NC, 3 L1, 4 W1, 5 A2 (in), 6 A1 (in), 7 A0 (in), 8 GND (power), 9 SCL (in), 10 SDA (io), 11 NC, 12 L0, 13 H0, 14 W0, 15 NC, 16 VCC (power)

## DS1803-050
designator U?
Addressable Dual Digital Potentiometer; PackageDocument: 1999; Note: Pin numbers 2, 11 and 15 are Not Connected (NC); Published: 13-Oct-2000; LatestRevisionDate: 06-Jun-2005; LatestRevisionNote: Stylized 3D Model Added.; DatasheetDocument: 15-Oct-1999; PackageReference: DIP16; Publisher: Altium Limited; ComponentLink1Description: Manufacturer Link; ComponentLink1URL: http://www.maxim-ic.com/; ComponentLink2Description: Datasheet; ComponentLink2URL: http://pdfserv.maxim-ic.com/en/ds/DS1803.pdf
footprint DIP16 (DIP; 16 Leads; Row Spacing 7.62 mm; Pitch 2.54 mm)
3D model DIP16 (DIP; 16 Leads; Row Spacing 7.62 mm; Pitch 2.54 mm)
pins: 1 H1, 2 NC, 3 L1, 4 W1, 5 A2 (in), 6 A1 (in), 7 A0 (in), 8 GND (power), 9 SCL (in), 10 SDA (io), 11 NC, 12 L0, 13 H0, 14 W0, 15 NC, 16 VCC (power)

## DS1803-100
designator U?
Addressable Dual Digital Potentiometer; PackageDocument: 1999; Note: Pin numbers 2, 11 and 15 are Not Connected (NC); Published: 13-Oct-2000; LatestRevisionDate: 06-Jun-2005; LatestRevisionNote: Stylized 3D Model Added.; DatasheetDocument: 15-Oct-1999; PackageReference: DIP16; Publisher: Altium Limited; ComponentLink1Description: Manufacturer Link; ComponentLink1URL: http://www.maxim-ic.com/; ComponentLink2Description: Datasheet; ComponentLink2URL: http://pdfserv.maxim-ic.com/en/ds/DS1803.pdf
footprint DIP16 (DIP; 16 Leads; Row Spacing 7.62 mm; Pitch 2.54 mm)
3D model DIP16 (DIP; 16 Leads; Row Spacing 7.62 mm; Pitch 2.54 mm)
pins: 1 H1, 2 NC, 3 L1, 4 W1, 5 A2 (in), 6 A1 (in), 7 A0 (in), 8 GND (power), 9 SCL (in), 10 SDA (io), 11 NC, 12 L0, 13 H0, 14 W0, 15 NC, 16 VCC (power)

## DS1803E-010
designator U?
Addressable Dual Digital Potentiometer; Note: Pin number 13 is Not Connected (NC); Published: 13-Oct-2000; LatestRevisionDate: 06-Jun-2005; LatestRevisionNote: Stylized 3D Model Added.; DatasheetDocument: 15-Oct-1999; PackageReference: TSSOP14; Publisher: Altium Limited; ComponentLink1Description: Manufacturer Link; ComponentLink1URL: http://www.maxim-ic.com/; ComponentLink2Description: Datasheet; ComponentLink2URL: http://pdfserv.maxim-ic.com/en/ds/DS1803.pdf
footprint TSSOP14 (Shrink Small Outline; 14 Leads; Body Width 4.4 mm; Pitch 0.65 mm)
3D model TSSOP14 (Shrink Small Outline; 14 Leads; Body Width 4.4 mm; Pitch 0.65 mm)
pins: 1 H1, 2 L1, 3 W1, 4 A2 (in), 5 A1 (in), 6 A0 (in), 7 GND (power), 8 SCL (in), 9 SDA (io), 10 W0, 11 H0, 12 L0, 13 NC, 14 VCC (power)

## DS1803E-050
designator U?
Addressable Dual Digital Potentiometer; Note: Pin number 13 is Not Connected (NC); Published: 13-Oct-2000; LatestRevisionDate: 06-Jun-2005; LatestRevisionNote: Stylized 3D Model Added.; DatasheetDocument: 15-Oct-1999; PackageReference: TSSOP14; Publisher: Altium Limited; ComponentLink1Description: Manufacturer Link; ComponentLink1URL: http://www.maxim-ic.com/; ComponentLink2Description: Datasheet; ComponentLink2URL: http://pdfserv.maxim-ic.com/en/ds/DS1803.pdf
footprint TSSOP14 (Shrink Small Outline; 14 Leads; Body Width 4.4 mm; Pitch 0.65 mm)
3D model TSSOP14 (Shrink Small Outline; 14 Leads; Body Width 4.4 mm; Pitch 0.65 mm)
pins: 1 H1, 2 L1, 3 W1, 4 A2 (in), 5 A1 (in), 6 A0 (in), 7 GND (power), 8 SCL (in), 9 SDA (io), 10 W0, 11 H0, 12 L0, 13 NC, 14 VCC (power)

## DS1803E-100
designator U?
Addressable Dual Digital Potentiometer; Note: Pin number 13 is Not Connected (NC); Published: 13-Oct-2000; LatestRevisionDate: 06-Jun-2005; LatestRevisionNote: Stylized 3D Model Added.; DatasheetDocument: 15-Oct-1999; PackageReference: TSSOP14; Publisher: Altium Limited; ComponentLink1Description: Manufacturer Link; ComponentLink1URL: http://www.maxim-ic.com/; ComponentLink2Description: Datasheet; ComponentLink2URL: http://pdfserv.maxim-ic.com/en/ds/DS1803.pdf
footprint TSSOP14 (Shrink Small Outline; 14 Leads; Body Width 4.4 mm; Pitch 0.65 mm)
3D model TSSOP14 (Shrink Small Outline; 14 Leads; Body Width 4.4 mm; Pitch 0.65 mm)
pins: 1 H1, 2 L1, 3 W1, 4 A2 (in), 5 A1 (in), 6 A0 (in), 7 GND (power), 8 SCL (in), 9 SDA (io), 10 W0, 11 H0, 12 L0, 13 NC, 14 VCC (power)

## DS1803Z-010
designator U?
Addressable Dual Digital Potentiometer; PackageDocument: 1999; Note: Pin numbers 2, 11 and 15 are Not Connected (NC); Published: 13-Oct-2000; LatestRevisionDate: 06-Jun-2005; LatestRevisionNote: Stylized 3D Model Added.; DatasheetDocument: 15-Oct-1999; PackageReference: SOIC16N; Publisher: Altium Limited; ComponentLink1Description: Manufacturer Link; ComponentLink1URL: http://www.maxim-ic.com/; ComponentLink2Description: Datasheet; ComponentLink2URL: http://pdfserv.maxim-ic.com/en/ds/DS1803.pdf
footprint SOIC16N (Small Outline; 16 Leads; Body Width 3.9 mm; Pitch 1.27 mm)
3D model SOIC16N (Small Outline; 16 Leads; Body Width 3.9 mm; Pitch 1.27 mm)
pins: 1 H1, 2 NC, 3 L1, 4 W1, 5 A2 (in), 6 A1 (in), 7 A0 (in), 8 GND (power), 9 SCL (in), 10 SDA (io), 11 NC, 12 L0, 13 H0, 14 W0, 15 NC, 16 VCC (power)

## DS1803Z-050
designator U?
Addressable Dual Digital Potentiometer; PackageDocument: 1999; Note: Pin numbers 2, 11 and 15 are Not Connected (NC); Published: 13-Oct-2000; LatestRevisionDate: 06-Jun-2005; LatestRevisionNote: Stylized 3D Model Added.; DatasheetDocument: 15-Oct-1999; PackageReference: SOIC16N; Publisher: Altium Limited; ComponentLink1Description: Manufacturer Link; ComponentLink1URL: http://www.maxim-ic.com/; ComponentLink2Description: Datasheet; ComponentLink2URL: http://pdfserv.maxim-ic.com/en/ds/DS1803.pdf
footprint SOIC16N (Small Outline; 16 Leads; Body Width 3.9 mm; Pitch 1.27 mm)
3D model SOIC16N (Small Outline; 16 Leads; Body Width 3.9 mm; Pitch 1.27 mm)
pins: 1 H1, 2 NC, 3 L1, 4 W1, 5 A2 (in), 6 A1 (in), 7 A0 (in), 8 GND (power), 9 SCL (in), 10 SDA (io), 11 NC, 12 L0, 13 H0, 14 W0, 15 NC, 16 VCC (power)

## DS1803Z-100
designator U?
Addressable Dual Digital Potentiometer; PackageDocument: 1999; Note: Pin numbers 2, 11 and 15 are Not Connected (NC); Published: 13-Oct-2000; LatestRevisionDate: 06-Jun-2005; LatestRevisionNote: Stylized 3D Model Added.; DatasheetDocument: 15-Oct-1999; PackageReference: SOIC16N; Publisher: Altium Limited; ComponentLink1Description: Manufacturer Link; ComponentLink1URL: http://www.maxim-ic.com/; ComponentLink2Description: Datasheet; ComponentLink2URL: http://pdfserv.maxim-ic.com/en/ds/DS1803.pdf
footprint SOIC16N (Small Outline; 16 Leads; Body Width 3.9 mm; Pitch 1.27 mm)
3D model SOIC16N (Small Outline; 16 Leads; Body Width 3.9 mm; Pitch 1.27 mm)
pins: 1 H1, 2 NC, 3 L1, 4 W1, 5 A2 (in), 6 A1 (in), 7 A0 (in), 8 GND (power), 9 SCL (in), 10 SDA (io), 11 NC, 12 L0, 13 H0, 14 W0, 15 NC, 16 VCC (power)

## DS1804-010
designator U?
Nonvolatile Trimmer Potentiometer; PackageDocument: 1999; Published: 13-Oct-2000; LatestRevisionDate: 06-Jun-2005; LatestRevisionNote: Stylized 3D Model Added.; DatasheetDocument: 26-Oct-1999; PackageReference: DIP8; Publisher: Altium Limited; ComponentLink1Description: Manufacturer Link; ComponentLink1URL: http://www.maxim-ic.com/; ComponentLink2Description: Datasheet; ComponentLink2URL: http://pdfserv.maxim-ic.com/en/ds/DS1804.pdf
footprint DIP8 (DIP; 8 Leads; Row Spacing 7.62 mm; Pitch 2.54 mm)
3D model DIP8 (DIP; 8 Leads; Row Spacing 7.62 mm; Pitch 2.54 mm)
pins: 1 ~{INC} (in), 2 U/~{D} (in), 3 H, 4 GND (power), 5 W, 6 L, 7 ~{CS} (in), 8 VCC (power)

## DS1804-050
designator U?
Nonvolatile Trimmer Potentiometer; PackageDocument: 1999; Published: 13-Oct-2000; LatestRevisionDate: 06-Jun-2005; LatestRevisionNote: Stylized 3D Model Added.; DatasheetDocument: 26-Oct-1999; PackageReference: DIP8; Publisher: Altium Limited; ComponentLink1Description: Manufacturer Link; ComponentLink1URL: http://www.maxim-ic.com/; ComponentLink2Description: Datasheet; ComponentLink2URL: http://pdfserv.maxim-ic.com/en/ds/DS1804.pdf
footprint DIP8 (DIP; 8 Leads; Row Spacing 7.62 mm; Pitch 2.54 mm)
3D model DIP8 (DIP; 8 Leads; Row Spacing 7.62 mm; Pitch 2.54 mm)
pins: 1 ~{INC} (in), 2 U/~{D} (in), 3 H, 4 GND (power), 5 W, 6 L, 7 ~{CS} (in), 8 VCC (power)

## DS1804-100
designator U?
Nonvolatile Trimmer Potentiometer; PackageDocument: 1999; Published: 13-Oct-2000; LatestRevisionDate: 06-Jun-2005; LatestRevisionNote: Stylized 3D Model Added.; DatasheetDocument: 26-Oct-1999; PackageReference: DIP8; Publisher: Altium Limited; ComponentLink1Description: Manufacturer Link; ComponentLink1URL: http://www.maxim-ic.com/; ComponentLink2Description: Datasheet; ComponentLink2URL: http://pdfserv.maxim-ic.com/en/ds/DS1804.pdf
footprint DIP8 (DIP; 8 Leads; Row Spacing 7.62 mm; Pitch 2.54 mm)
3D model DIP8 (DIP; 8 Leads; Row Spacing 7.62 mm; Pitch 2.54 mm)
pins: 1 ~{INC} (in), 2 U/~{D} (in), 3 H, 4 GND (power), 5 W, 6 L, 7 ~{CS} (in), 8 VCC (power)

## DS1806-010
designator U?
Digital Sextet Potentiometer; PackageDocument: 1999; Published: 13-Oct-2000; LatestRevisionDate: 06-Jun-2005; LatestRevisionNote: Stylized 3D Model Added.; DatasheetDocument: 21-Oct-1999; PackageReference: DIP20; Publisher: Altium Limited; Code_JEDEC: MS-001-AD; ComponentLink1Description: Manufacturer Link; ComponentLink1URL: http://www.maxim-ic.com/; ComponentLink2Description: Datasheet; ComponentLink2URL: http://pdfserv.maxim-ic.com/en/ds/DS1806.pdf
footprint DIP20 (DIP; 20 Leads; Row Spacing 7.62 mm; Pitch 2.54 mm)
3D model DIP20 (DIP; 20 Leads; Row Spacing 7.62 mm; Pitch 2.54 mm)
pins: 1 W1, 2 W2, 3 L1-3, 4 W3, 5 W4, 6 L4-6, 7 W6, 8 ~{RST} (in), 9 CLK (in), 10 GND (power), 11 COUT (out), 12 DIN (in), 13 H6, 14 W5, 15 H5, 16 H4, 17 H3, 18 H2, 19 H1, 20 VCC (power)

## DS1806-050
designator U?
Digital Sextet Potentiometer; PackageDocument: 1999; Published: 13-Oct-2000; LatestRevisionDate: 06-Jun-2005; LatestRevisionNote: Stylized 3D Model Added.; DatasheetDocument: 21-Oct-1999; PackageReference: DIP20; Publisher: Altium Limited; Code_JEDEC: MS-001-AD; ComponentLink1Description: Manufacturer Link; ComponentLink1URL: http://www.maxim-ic.com/; ComponentLink2Description: Datasheet; ComponentLink2URL: http://pdfserv.maxim-ic.com/en/ds/DS1806.pdf
footprint DIP20 (DIP; 20 Leads; Row Spacing 7.62 mm; Pitch 2.54 mm)
3D model DIP20 (DIP; 20 Leads; Row Spacing 7.62 mm; Pitch 2.54 mm)
pins: 1 W1, 2 W2, 3 L1-3, 4 W3, 5 W4, 6 L4-6, 7 W6, 8 ~{RST} (in), 9 CLK (in), 10 GND (power), 11 COUT (out), 12 DIN (in), 13 H6, 14 W5, 15 H5, 16 H4, 17 H3, 18 H2, 19 H1, 20 VCC (power)

## DS1806-100
designator U?
Digital Sextet Potentiometer; PackageDocument: 1999; Published: 13-Oct-2000; LatestRevisionDate: 06-Jun-2005; LatestRevisionNote: Stylized 3D Model Added.; DatasheetDocument: 21-Oct-1999; PackageReference: DIP20; Publisher: Altium Limited; Code_JEDEC: MS-001-AD; ComponentLink1Description: Manufacturer Link; ComponentLink1URL: http://www.maxim-ic.com/; ComponentLink2Description: Datasheet; ComponentLink2URL: http://pdfserv.maxim-ic.com/en/ds/DS1806.pdf
footprint DIP20 (DIP; 20 Leads; Row Spacing 7.62 mm; Pitch 2.54 mm)
3D model DIP20 (DIP; 20 Leads; Row Spacing 7.62 mm; Pitch 2.54 mm)
pins: 1 W1, 2 W2, 3 L1-3, 4 W3, 5 W4, 6 L4-6, 7 W6, 8 ~{RST} (in), 9 CLK (in), 10 GND (power), 11 COUT (out), 12 DIN (in), 13 H6, 14 W5, 15 H5, 16 H4, 17 H3, 18 H2, 19 H1, 20 VCC (power)

## DS1806S-010
designator U?
Digital Sextet Potentiometer; PackageDocument: 1999; Published: 13-Oct-2000; LatestRevisionDate: 06-Jun-2005; LatestRevisionNote: Stylized 3D Model Added.; DatasheetDocument: 21-Oct-1999; PackageReference: SOIC20; Publisher: Altium Limited; ComponentLink1Description: Manufacturer Link; ComponentLink1URL: http://www.maxim-ic.com/; ComponentLink2Description: Datasheet; ComponentLink2URL: http://pdfserv.maxim-ic.com/en/ds/DS1806.pdf
footprint SOIC20 (Small Outline; 20 Leads; Body Width 7.5 mm; Pitch 1.27 mm)
3D model SOIC20 (Small Outline; 20 Leads; Body Width 7.5 mm; Pitch 1.27 mm)
pins: 1 W1, 2 W2, 3 L1-3, 4 W3, 5 W4, 6 L4-6, 7 W6, 8 ~{RST} (in), 9 CLK (in), 10 GND (power), 11 COUT (out), 12 DIN (in), 13 H6, 14 W5, 15 H5, 16 H4, 17 H3, 18 H2, 19 H1, 20 VCC (power)

## DS1806S-050
designator U?
Digital Sextet Potentiometer; PackageDocument: 1999; Published: 13-Oct-2000; LatestRevisionDate: 06-Jun-2005; LatestRevisionNote: Stylized 3D Model Added.; DatasheetDocument: 21-Oct-1999; PackageReference: SOIC20; Publisher: Altium Limited; ComponentLink1Description: Manufacturer Link; ComponentLink1URL: http://www.maxim-ic.com/; ComponentLink2Description: Datasheet; ComponentLink2URL: http://pdfserv.maxim-ic.com/en/ds/DS1806.pdf
footprint SOIC20 (Small Outline; 20 Leads; Body Width 7.5 mm; Pitch 1.27 mm)
3D model SOIC20 (Small Outline; 20 Leads; Body Width 7.5 mm; Pitch 1.27 mm)
pins: 1 W1, 2 W2, 3 L1-3, 4 W3, 5 W4, 6 L4-6, 7 W6, 8 ~{RST} (in), 9 CLK (in), 10 GND (power), 11 COUT (out), 12 DIN (in), 13 H6, 14 W5, 15 H5, 16 H4, 17 H3, 18 H2, 19 H1, 20 VCC (power)

## DS1806S-100
designator U?
Digital Sextet Potentiometer; PackageDocument: 1999; Published: 13-Oct-2000; LatestRevisionDate: 06-Jun-2005; LatestRevisionNote: Stylized 3D Model Added.; DatasheetDocument: 21-Oct-1999; PackageReference: SOIC20; Publisher: Altium Limited; ComponentLink1Description: Manufacturer Link; ComponentLink1URL: http://www.maxim-ic.com/; ComponentLink2Description: Datasheet; ComponentLink2URL: http://pdfserv.maxim-ic.com/en/ds/DS1806.pdf
footprint SOIC20 (Small Outline; 20 Leads; Body Width 7.5 mm; Pitch 1.27 mm)
3D model SOIC20 (Small Outline; 20 Leads; Body Width 7.5 mm; Pitch 1.27 mm)
pins: 1 W1, 2 W2, 3 L1-3, 4 W3, 5 W4, 6 L4-6, 7 W6, 8 ~{RST} (in), 9 CLK (in), 10 GND (power), 11 COUT (out), 12 DIN (in), 13 H6, 14 W5, 15 H5, 16 H4, 17 H3, 18 H2, 19 H1, 20 VCC (power)